# EAGLE library part LITE (library TWELite)
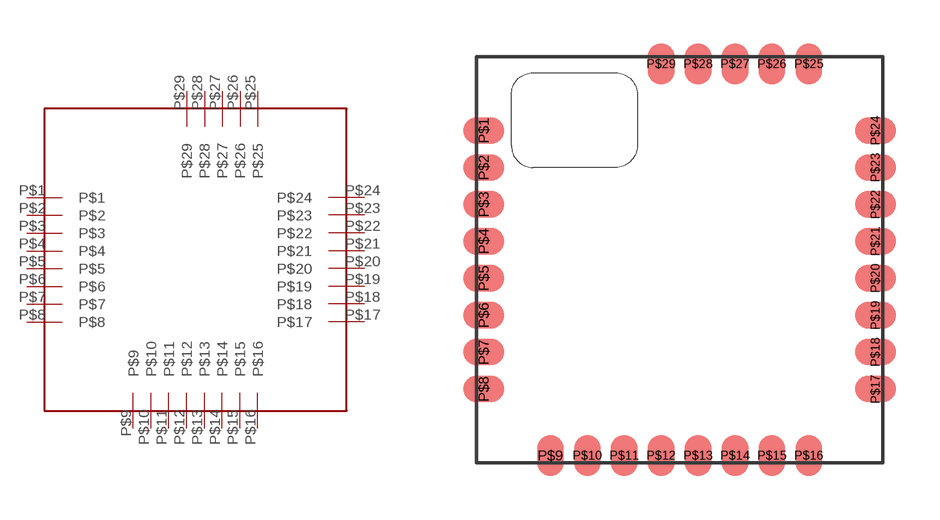
[diagram p0: symbol with the pads of LITE; footprint LITE]

Designator prefix -

## LITE  [LITE]
P$1  P$1
P$2  P$2
P$3  P$3
P$4  P$4
P$5  P$5
P$6  P$6
P$7  P$7
P$8  P$8
P$9  P$9
P$10  P$10
P$11  P$11
P$12  P$12
P$13  P$13
P$14  P$14
P$15  P$15
P$16  P$16
P$17  P$17
P$18  P$18
P$19  P$19
P$20  P$20
P$21  P$21
P$22  P$22
P$23  P$23
P$24  P$24
P$25  P$25
P$26  P$26
P$27  P$27
P$28  P$28
P$29  P$29

## Footprint LITE (pad centres in mm)
smd 0.5 x 0.9: P$1 0.25,11.43; P$2 0.25,10.16; P$3 0.25,8.89; P$4 0.25,7.62; P$5 0.25,6.35; P$6 0.25,5.08; P$7 0.25,3.81; P$8 0.25,2.54; P$17 13.72,2.54; P$18 13.72,3.81; P$19 13.72,5.08; P$20 13.72,6.35; P$21 13.72,7.62; P$22 13.72,8.89; P$23 13.72,10.16; P$24 13.72,11.43
smd 0.9 x 0.5: P$9 2.54,0.25; P$10 3.81,0.25; P$11 5.08,0.25; P$12 6.35,0.25; P$13 7.62,0.25; P$14 8.89,0.25; P$15 10.16,0.25; P$16 11.43,0.25; P$25 11.43,13.72; P$26 10.16,13.72; P$27 8.89,13.72; P$28 7.62,13.72; P$29 6.35,13.72